# Altium integrated library SMU.IntLib: 2 symbols
Pins are listed as number, name and electrical type; pins without a type are passive.

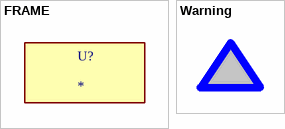
[diagram p0: symbols FRAME to Warning]

## FRAME
designator U?
footprint FRAME

## Warning
designator ?  (value not drawn)
footprint Warning